# EAGLE library part TEA1623 (library nxp_60)
STARplug switched mode power supply controller IC The TEA1623 is a Switched Mode Power Supply (SMPS) controller IC that operates directly from rectified universal mains. It is implemented in the high voltage EZ-HV SOI process, combined with a low voltage BiCMOS process. The device includes a high voltage power switch and a circuit for start-up directly from the rectified mains voltage. A dedicated circuit for valley switching is built in, which makes a very efficient slim-line electronic power-plug concept possible. In its most basic version of application, the TEA1623 acts as a voltage source. Here, no additional secondary electronics are required. A combined voltage and current source can be realized with minimum costs for external components. Implementation of the TEA1623 renders an efficient and low cost power supply system. AAL Eindhoven MK
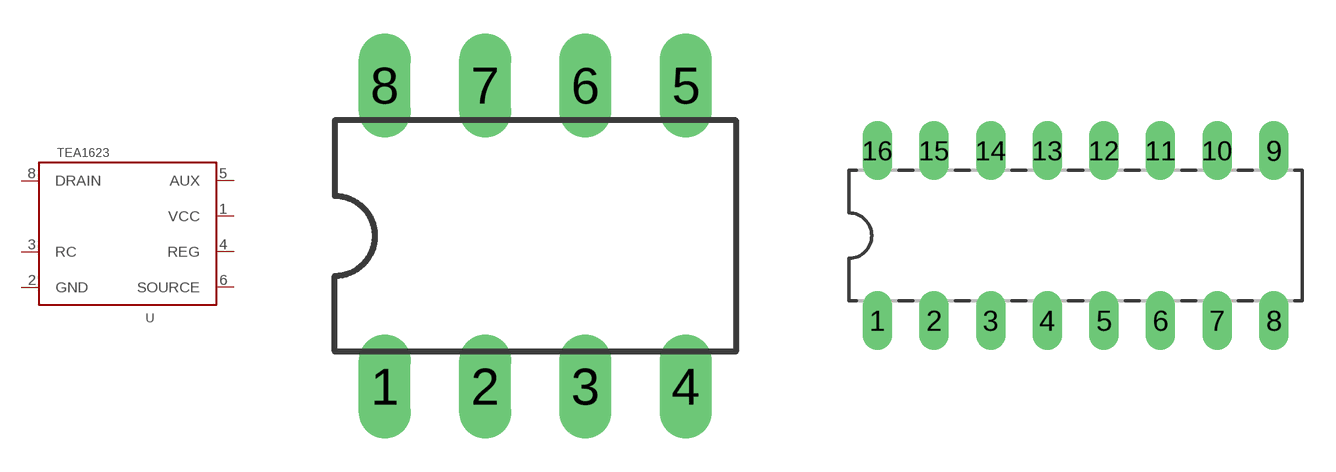
[diagram p110: symbol with the pads of SOT97-1; footprints SOT97-1, SOT38]

Designator prefix U

## TEA1623P  [SOT97-1]
1  VCC  pwr
2  GND  in
3  RC  pas
4  REG  out
5  AUX  pas
6  SOURCE  in
8  DRAIN  pas

## TEA1623PH  [SOT38]
3  VCC  pwr
4  GND  in
5  RC  pas
6  REG  out
8  GND  in
11  AUX  pas
12  SOURCE  in
14  DRAIN  pas

## Footprint SOT97-1 (pad centres in mm)
Dual In Line Package
drill 0.813 long: 1 -3.81,-3.81; 2 -1.27,-3.81; 3 1.27,-3.81; 4 3.81,-3.81; 5 3.81,3.81; 6 1.27,3.81; 7 -1.27,3.81; 8 -3.81,3.81

## Footprint SOT38 (pad centres in mm)
Dual In Line Package
drill 0.813 long: 1 -8.89,-3.81; 2 -6.35,-3.81; 3 -3.81,-3.81; 4 -1.27,-3.81; 5 1.27,-3.81; 6 3.81,-3.81; 7 6.35,-3.81; 8 8.89,-3.81; 9 8.89,3.81; 10 6.35,3.81; 11 3.81,3.81; 12 1.27,3.81; 13 -1.27,3.81; 14 -3.81,3.81; 15 -6.35,3.81; 16 -8.89,3.81